# Altium footprint library etap1.PcbLib: 2 footprints
Each footprint in its own frame and in the unit in brackets; x right, y up, seen from the top. Pads: shape width x height; smd on the part's side, far side on the other; paste and mask are expansions set on the pad; w line width, h text height; cw(c..) or ccw(c..) is an arc to the next point about the centre after c.
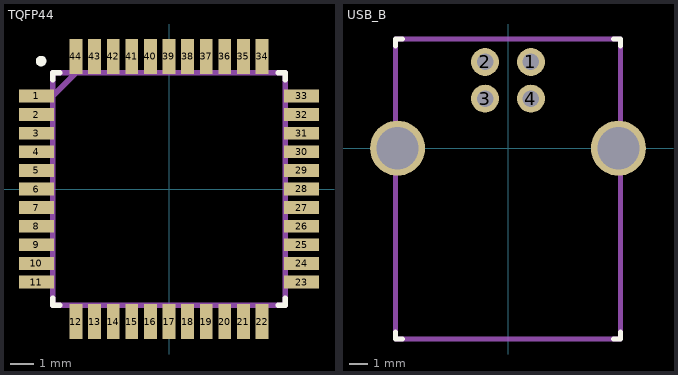
[diagram p0: the footprints below, top view; thin cyan lines are the x and y axes]

## TQFP44 [mm]
pads (44):
  rect 1.5x0.55 smd: 1(-5.7,4) 2(-5.7,3.2) 3(-5.7,2.4) 4(-5.7,1.6) 5(-5.7,0.8) 6(-5.7,0) 7(-5.7,-0.8) 8(-5.7,-1.6) 9(-5.7,-2.4) 10(-5.7,-3.2) 11(-5.7,-4) 23(5.7,-4) 24(5.7,-3.2) 25(5.7,-2.4) 26(5.7,-1.6) 27(5.7,-0.8) 28(5.7,0) 29(5.7,0.8) 30(5.7,1.6) 31(5.7,2.4) 32(5.7,3.2) 33(5.7,4)
  rect 0.55x1.5 smd: 12(-4,-5.7) 13(-3.2,-5.7) 14(-2.4,-5.7) 15(-1.6,-5.7) 16(-0.8,-5.7) 17(0,-5.7) 18(0.8,-5.7) 19(1.6,-5.7) 20(2.4,-5.7) 21(3.2,-5.7) 22(4,-5.7) 34(4,5.7) 35(3.2,5.7) 36(2.4,5.7) 37(1.6,5.7) 38(0.8,5.7) 39(0,5.7) 40(-0.8,5.7) 41(-1.6,5.7) 42(-2.4,5.7) 43(-3.2,5.7) 44(-4,5.7)
Top Overlay:
  circle w0.254: c-5.5,5.5 r0.1
  lines w0.254: -5,-4.699 -5,-5 -4.699,-5 ; -5,4.699 -5,5 -4.699,5 ; 4.699,-5 5,-5 5,-4.699 ; 4.699,5 5,5 5,4.699
Mechanical 13:
  lines w0.254: -5,4 -4,5 ; -5,-5 -5,5 5,5 5,-5 -5,-5
3D body "tqfp44.step": height 1.1, standoff 0, extent -6,-6 6,6

## USB_B [mm]
pads (6):
  round 1.524 hole 0.9: 1(1.25,4.7) 2(-1.25,4.7) 3(-1.25,2.7) 4(1.25,2.7)
  round 3 hole 2.3: ""(-6.02,0) ""(6.02,0)
Top Overlay:
  lines w0.254: -6.13,-10.02 -6.13,-10.4 -5.75,-10.4 ; -6.13,5.57 -6.13,5.95 -5.75,5.95 ; 5.75,-10.4 6.13,-10.4 6.13,-10.02 ; 5.75,5.95 6.13,5.95 6.13,5.57
Mechanical 13:
  lines w0.254: -6.13,-10.4 6.13,-10.4 6.13,5.95 -6.13,5.95 -6.13,-10.4
  text "Front" at -3,-9.5 h1.52
3D body "User Library-Samtec - USB-B-S-X-W-TH.STEP": height 11.8, standoff -2.84, extent -7.4,-10.4 7.398,6.1